# Altium footprint library ContrastPot.PcbLib: 1 footprints
Each footprint in its own frame and in the unit in brackets; x right, y up, seen from the top. Pads: shape width x height; smd on the part's side, far side on the other; paste and mask are expansions set on the pad; w line width, h text height; cw(c..) or ccw(c..) is an arc to the next point about the centre after c.
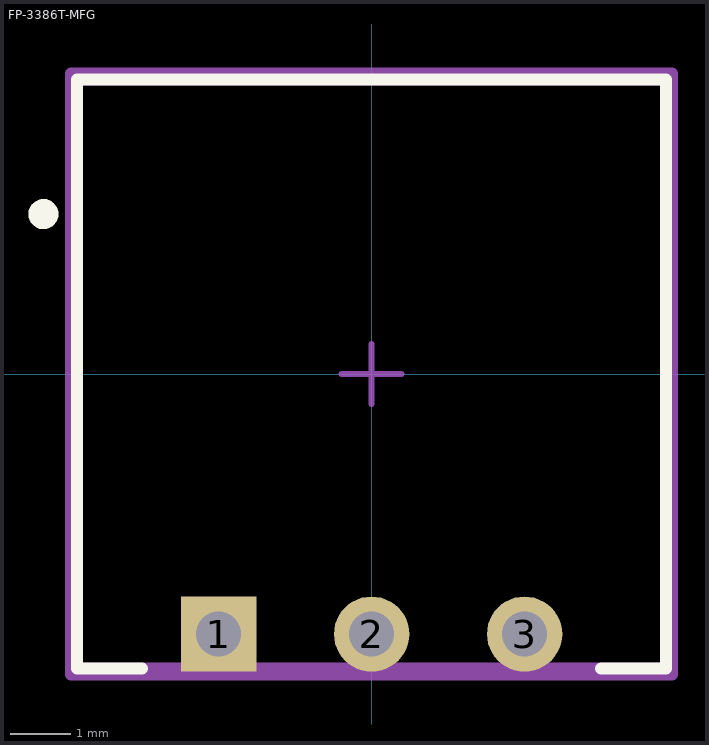
[diagram p0: the footprint, top view; thin cyan lines are the x and y axes]

## FP-3386T-MFG [mm]
pads (3):
  rect 1.25x1.25 hole 0.75 paste-1000 mask+0: 1(-2.54,-4.318)
  round 1.25 hole 0.75 paste-1000 mask+0: 2(0,-4.318) 3(2.54,-4.318)
Top Overlay:
  circle w0.25: c-5.45,2.655 r0.125
  lines w0.2: -3.81,-4.89 -4.89,-4.89 -4.89,4.89 4.89,4.89 4.89,-4.89 3.81,-4.89
Top Assembly:
  lines w0.2: -4.99,-4.99 -4.99,4.99 4.99,4.99 4.99,-4.99 -4.99,-4.99
  text ".Designator" at 0,-0.001 h1
Top 3D Body:
  lines w0.2: -4.89,-4.89 -4.89,4.89 4.89,4.89 4.89,-4.89 -4.89,-4.89
Top Courtyard:
  lines w0.2: -4.99,-4.99 -4.99,4.99 4.99,4.99 4.99,-4.99 -4.99,-4.99
Top Component Center:
  lines w0.1: -0.5,0 0.5,0 ; 0,-0.5 0,0.5
3D body "Res_Bourns_3386F-1-303LF_eec.STEP": height 0.25, standoff 0, extent -4.99,-4.99 4.99,4.99